# Altium integrated library Solar_cell.IntLib: 1 symbol
Pins are listed as number, name and electrical type; pins without a type are passive.

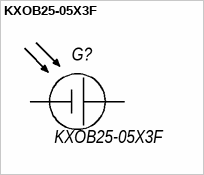
[diagram p0: symbol KXOB25-05X3F]

## KXOB25-05X3F
designator G?
Monocrystalline solar cell.; Manufacturer: ANYSOLAR Ltd; Voc: 2.07V; Isc: 19.5mA; Vmpp: 1.67V; Impp: 18.4mA; Pmpp: 30.7mW; Efficiency: 25%; Model: KXOB25-05X3F; HelpURL: https://waf-e.dubudisk.com/anysolar.dubuplus.com/anonymous/O18AjDa/DubuDisk/public/KXOB25-05X3F%20DATA%20SHEET%20202007.pdf; ComponentKind: *
footprint KXOB25-05X3F
pins: 1 (power), 2 (power)